# EAGLE library part BEAGLEBONE_BLACK (library beaglebone)
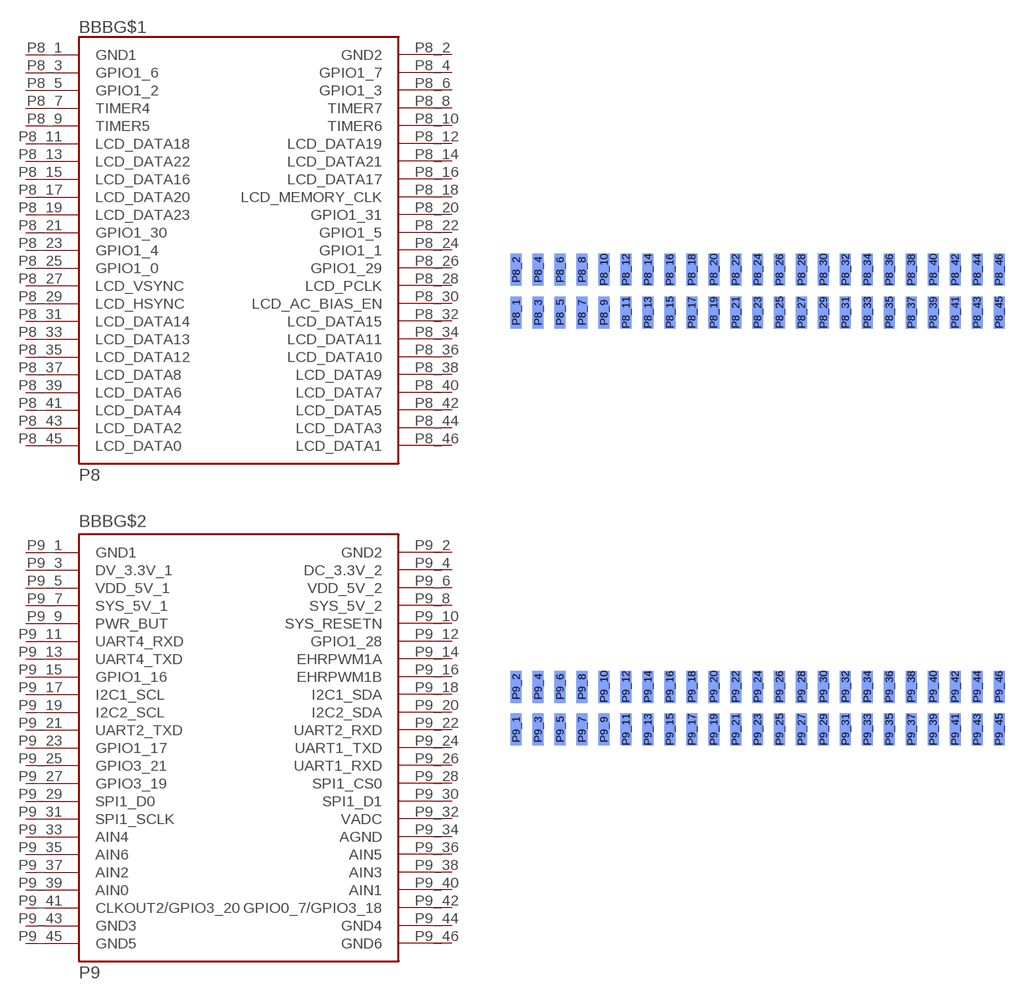
[diagram p0: symbol with the pads of BEAGLEBOARD_BLACK; footprint BEAGLEBOARD_BLACK]

Designator prefix BBB; gates G$1=BEAGLEBONE_BLACK_P8 G$2=BEAGLEBONE_BLACK_P9

## BEAGLEBONE_BLACK  [BEAGLEBOARD_BLACK]
P8_1  G$1:GND1
P8_2  G$1:GND2
P8_3  G$1:GPIO1_6
P8_4  G$1:GPIO1_7
P8_5  G$1:GPIO1_2
P8_6  G$1:GPIO1_3
P8_7  G$1:TIMER4
P8_8  G$1:TIMER7
P8_9  G$1:TIMER5
P8_10  G$1:TIMER6
P8_11  G$1:LCD_DATA18
P8_12  G$1:LCD_DATA19
P8_13  G$1:LCD_DATA22
P8_14  G$1:LCD_DATA21
P8_15  G$1:LCD_DATA16
P8_16  G$1:LCD_DATA17
P8_17  G$1:LCD_DATA20
P8_18  G$1:LCD_MEMORY_CLK
P8_19  G$1:LCD_DATA23
P8_20  G$1:GPIO1_31
P8_21  G$1:GPIO1_30
P8_22  G$1:GPIO1_5
P8_23  G$1:GPIO1_4
P8_24  G$1:GPIO1_1
P8_25  G$1:GPIO1_0
P8_26  G$1:GPIO1_29
P8_27  G$1:LCD_VSYNC
P8_28  G$1:LCD_PCLK
P8_29  G$1:LCD_HSYNC
P8_30  G$1:LCD_AC_BIAS_EN
P8_31  G$1:LCD_DATA14
P8_32  G$1:LCD_DATA15
P8_33  G$1:LCD_DATA13
P8_34  G$1:LCD_DATA11
P8_35  G$1:LCD_DATA12
P8_36  G$1:LCD_DATA10
P8_37  G$1:LCD_DATA8
P8_38  G$1:LCD_DATA9
P8_39  G$1:LCD_DATA6
P8_40  G$1:LCD_DATA7
P8_41  G$1:LCD_DATA4
P8_42  G$1:LCD_DATA5
P8_43  G$1:LCD_DATA2
P8_44  G$1:LCD_DATA3
P8_45  G$1:LCD_DATA0
P8_46  G$1:LCD_DATA1
P9_1  G$2:GND1
P9_2  G$2:GND2
P9_3  G$2:DV_3.3V_1
P9_4  G$2:DC_3.3V_2
P9_5  G$2:VDD_5V_1
P9_6  G$2:VDD_5V_2
P9_7  G$2:SYS_5V_1
P9_8  G$2:SYS_5V_2
P9_9  G$2:PWR_BUT
P9_10  G$2:SYS_RESETN
P9_11  G$2:UART4_RXD
P9_12  G$2:GPIO1_28
P9_13  G$2:UART4_TXD
P9_14  G$2:EHRPWM1A
P9_15  G$2:GPIO1_16
P9_16  G$2:EHRPWM1B
P9_17  G$2:I2C1_SCL
P9_18  G$2:I2C1_SDA
P9_19  G$2:I2C2_SCL
P9_20  G$2:I2C2_SDA
P9_21  G$2:UART2_TXD
P9_22  G$2:UART2_RXD
P9_23  G$2:GPIO1_17
P9_24  G$2:UART1_TXD
P9_25  G$2:GPIO3_21
P9_26  G$2:UART1_RXD
P9_27  G$2:GPIO3_19
P9_28  G$2:SPI1_CS0
P9_29  G$2:SPI1_D0
P9_30  G$2:SPI1_D1
P9_31  G$2:SPI1_SCLK
P9_32  G$2:VADC
P9_33  G$2:AIN4
P9_34  G$2:AGND
P9_35  G$2:AIN6
P9_36  G$2:AIN5
P9_37  G$2:AIN2
P9_38  G$2:AIN3
P9_39  G$2:AIN0
P9_40  G$2:AIN1
P9_41  G$2:CLKOUT2/GPIO3_20
P9_42  G$2:GPIO0_7/GPIO3_18
P9_43  G$2:GND3
P9_44  G$2:GND4
P9_45  G$2:GND5
P9_46  G$2:GND6

## Footprint BEAGLEBOARD_BLACK (pad centres in mm)
smd 1.27 x 3.683 bottom: P8_1 19.685,48.959; P8_2 19.685,53.911; P8_3 22.225,48.959; P8_4 22.225,53.911; P8_5 24.765,48.959; P8_6 24.765,53.911; P8_7 27.305,48.959; P8_8 27.305,53.911; P8_9 29.845,48.959; P8_10 29.845,53.911; P8_11 32.385,48.959; P8_12 32.385,53.911; P8_13 34.925,48.959; P8_14 34.925,53.911; P8_15 37.465,48.959; P8_16 37.465,53.911; P8_17 40.005,48.959; P8_18 40.005,53.911; P8_19 42.545,48.959; P8_20 42.545,53.911; P8_21 45.085,48.959; P8_22 45.085,53.911; P8_23 47.625,48.959; P8_24 47.625,53.911; P8_25 50.165,48.959; P8_26 50.165,53.911; P8_27 52.705,48.959; P8_28 52.705,53.911; P8_29 55.245,48.959; P8_30 55.245,53.911; P8_31 57.785,48.959; P8_32 57.785,53.911; P8_33 60.325,48.959; P8_34 60.325,53.911; P8_35 62.865,48.959; P8_36 62.865,53.911; P8_37 65.405,48.959; P8_38 65.405,53.911; P8_39 67.945,48.959; P8_40 67.945,53.911; P8_41 70.485,48.959; P8_42 70.485,53.911; P8_43 73.025,48.959; P8_44 73.025,53.911; P8_45 75.565,48.959; P8_46 75.565,53.911; P9_1 19.685,0.699; P9_2 19.685,5.652; P9_3 22.225,0.699; P9_4 22.225,5.652; P9_5 24.765,0.699; P9_6 24.765,5.652; P9_7 27.305,0.699; P9_8 27.305,5.652; P9_9 29.845,0.699; P9_10 29.845,5.652; P9_11 32.385,0.699; P9_12 32.385,5.652; P9_13 34.925,0.699; P9_14 34.925,5.652; P9_15 37.465,0.699; P9_16 37.465,5.652; P9_17 40.005,0.699; P9_18 40.005,5.652; P9_19 42.545,0.699; P9_20 42.545,5.652; P9_21 45.085,0.699; P9_22 45.085,5.652; P9_23 47.625,0.699; P9_24 47.625,5.652; P9_25 50.165,0.699; P9_26 50.165,5.652; P9_27 52.705,0.699; P9_28 52.705,5.652; P9_29 55.245,0.699; P9_30 55.245,5.652; P9_31 57.785,0.699; P9_32 57.785,5.652; P9_33 60.325,0.699; P9_34 60.325,5.652; P9_35 62.865,0.699; P9_36 62.865,5.652; P9_37 65.405,0.699; P9_38 65.405,5.652; P9_39 67.945,0.699; P9_40 67.945,5.652; P9_41 70.485,0.699; P9_42 70.485,5.652; P9_43 73.025,0.699; P9_44 73.025,5.652; P9_45 75.565,0.699; P9_46 75.565,5.652